# EAGLE library part TPS16530PWPR (library TPS16530PWPR)
Hot Swap Voltage Controllers 58-V 4.5-A eFuse with pulse current support Source: Datasheet <https://www.ti.com/lit/ds/symlink/tps1653.pdf>
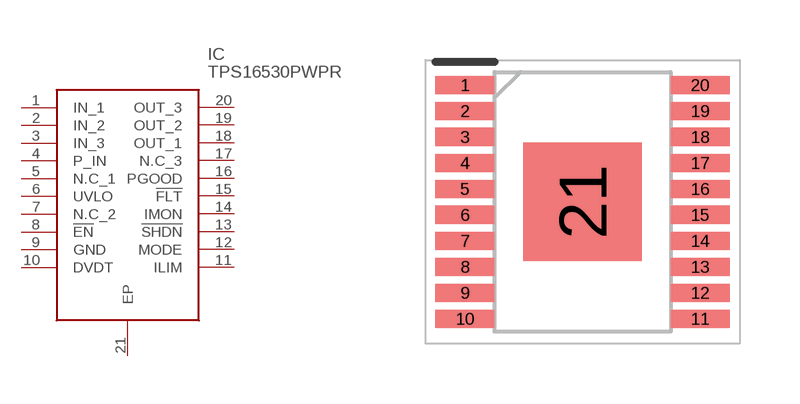
[diagram p0: symbol with the pads of SOP65P640X120-21N; footprint SOP65P640X120-21N]

Designator prefix IC

## TPS16530PWPR (Description: Hot Swap Voltage Controllers 58-V 4.5-A eFuse with pulse current support; Height: 1.2mm; Manufacturer_Name: Texas Instruments; Manufacturer_Part_Number: TPS16530PWPR; Mouser_Part_Number: 595-TPS16530PWPR; Mouser_Price-Stock: https://www.mouser.co.uk/ProductDetail/Texas-Instruments/TPS16530PWPR?qs=Wj%2FVkw3K%252BMCa2XDuVocGjg%3D%3D)  [SOP65P640X120-21N]
1  IN_1
2  IN_2
3  IN_3
4  P_IN
5  N.C_1
6  UVLO
7  N.C_2
8  !EN
9  GND
10  DVDT
11  ILIM
12  MODE
13  !SHDN
14  IMON
15  !FLT
16  PGOOD
17  N.C_3
18  OUT_1
19  OUT_2
20  OUT_3
21  EP

## Footprint SOP65P640X120-21N (pad centres in mm)
PWP0020T HTSSOP-20
smd 1.475 x 0.45: 1 -2.938,2.925; 2 -2.938,2.275; 3 -2.938,1.625; 4 -2.938,0.975; 5 -2.938,0.325; 6 -2.938,-0.325; 7 -2.938,-0.975; 8 -2.938,-1.625; 9 -2.938,-2.275; 10 -2.938,-2.925; 11 2.938,-2.925; 12 2.938,-2.275; 13 2.938,-1.625; 14 2.938,-0.975; 15 2.938,-0.325; 16 2.938,0.325; 17 2.938,0.975; 18 2.938,1.625; 19 2.938,2.275; 20 2.938,2.925
smd 2.96 x 2.96: 21 0,0